# Altium footprint library Mypcb.PcbLib: 144 footprints (part 4 of 9)
Each footprint in its own frame and in the unit in brackets; x right, y up, seen from the top. Pads: shape width x height; smd on the part's side, far side on the other; paste and mask are expansions set on the pad; w line width, h text height; cw(c..) or ccw(c..) is an arc to the next point about the centre after c.
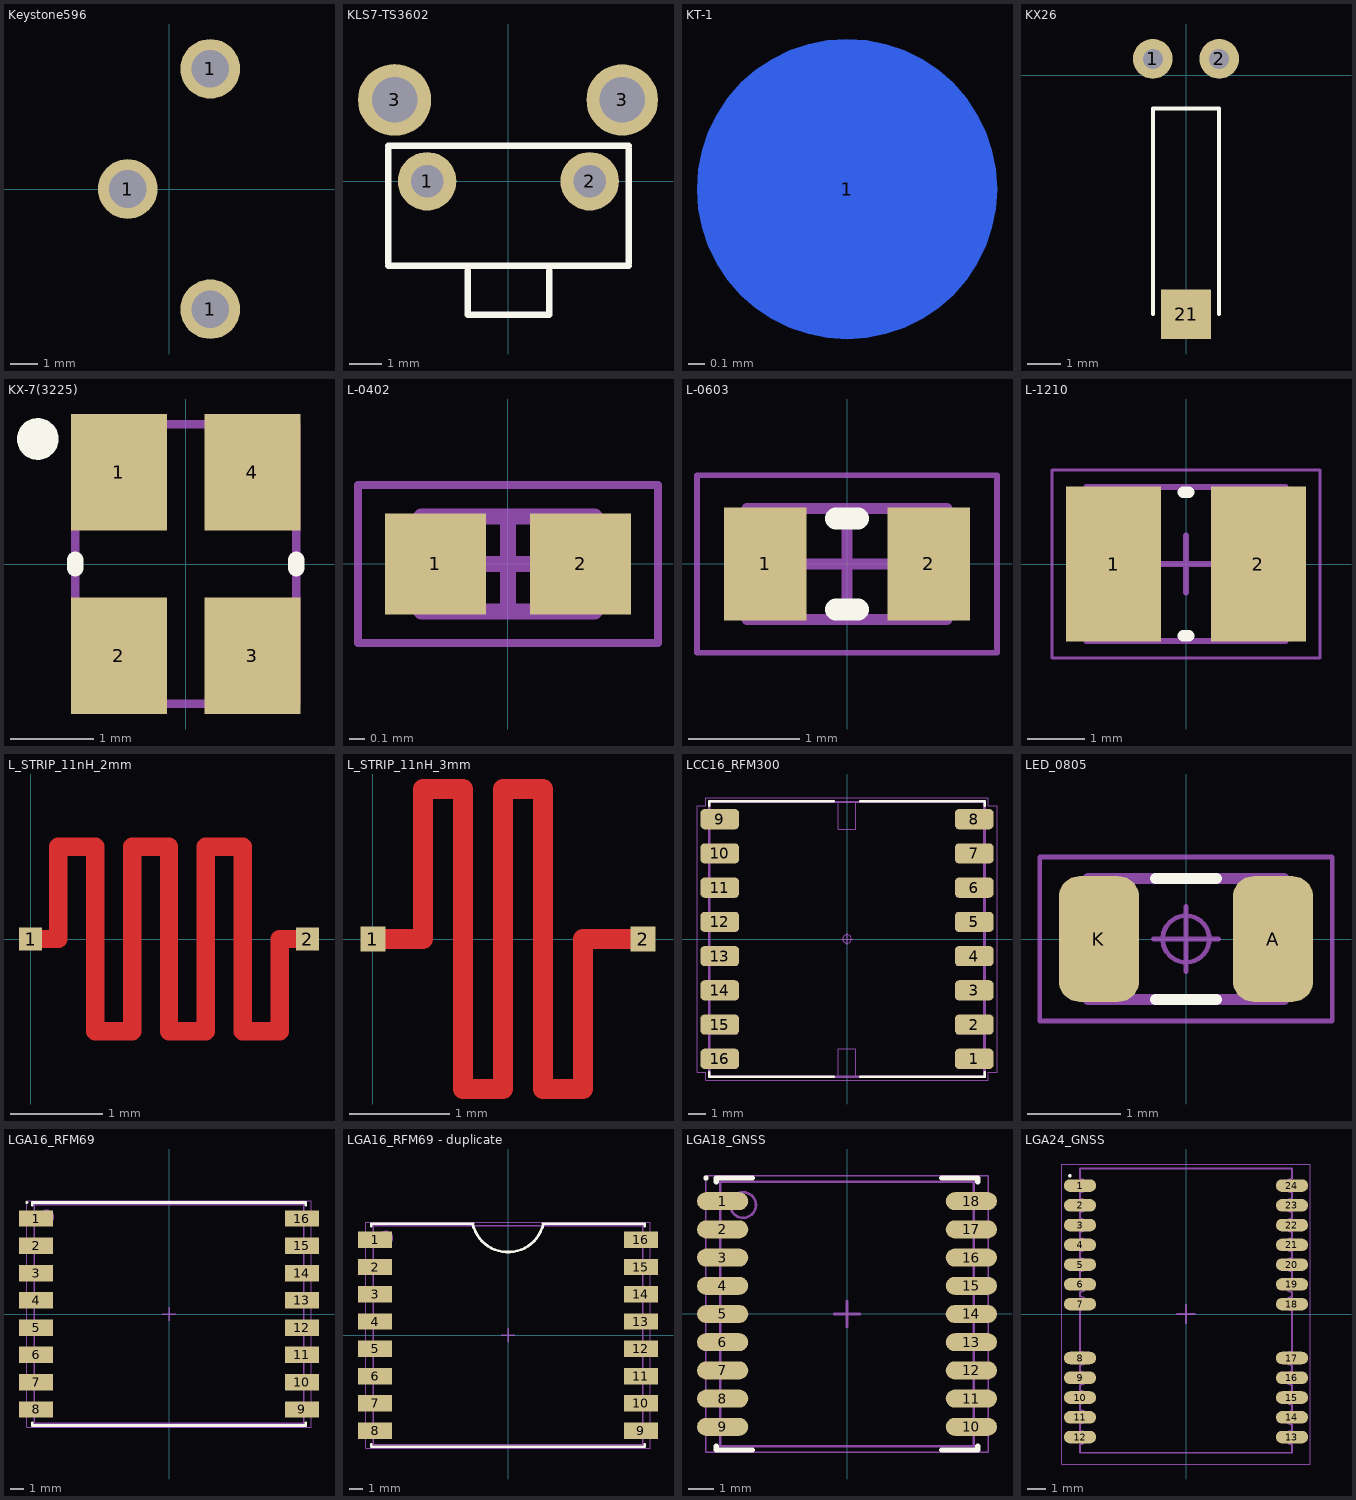
[diagram p3: the footprints below, top view; thin cyan lines are the x and y axes]

## Keystone596 [mm]
pads (3):
  round 2.2 hole 1.4 mask+0.1: 1(-1.525,0) 1(1.525,-4.445) 1(1.525,4.445)
3D body "keystone-PN596.STEP": height 11.43, standoff -3.88, extent -2.026,-5.369 4.705,5.248

## KLS7-TS3602 [mm] "miniature switch"
pads (4):
  round 1.8 hole 1: 1(-2.5,0) 2(2.5,0)
  oval 2.25x2.2 hole 1.4: 3(-3.5,2.5)
  round 2.2 hole 1.4: 3(3.5,2.5)
Top Overlay:
  lines w0.2: -3.7,-2.6 3.7,-2.6 ; -3.7,-2.5 -3.7,1 ; -3.7,1.1 3.7,1.1 ; -1.25,-2.75 -1.25,-4.1 1.25,-4.1 1.25,-2.75 ; 3.7,-2.5 3.7,1
3D body "KLS7-TS3602.STEP": height 4.4, standoff -1.4, extent -3.7,-3.975 3.6,3.75

## KT-1 [mm]
pads (1):
  round 1.8 smd far side: 1(3,7)

## KX26 [mm] "clock crystal, 2*6 mm"
pads (3):
  round 1.2 hole 0.6: 1(-1,0.5) 2(1,0.5)
  rect 1.5x1.5 smd: 21(0,-7.2)
Top Overlay:
  lines w0.12: -1,-7.2 -1,-1 1,-1 1,-7.2
3D body: height 0.99, standoff -1, extent -1,-7.2 0.996,-1

## KX-7(3225) [mm] "SMD, 4-Leads, Body 2.65x3.35mm, Height 0.6mm"
height 0.6
pads (4):
  rect 1.15x1.4 smd: 1(-0.8,1.1) 2(-0.8,-1.1) 3(0.8,-1.1) 4(0.8,1.1)
Top Overlay:
  circle w0.25: c-1.775,1.5 r0.125
  lines w0.2: -1.325,-0.05 -1.325,0.05 ; 1.325,-0.05 1.325,0.05
Mechanical 5:
  circle w0.1: c-0.7,1 r0.2
  lines w0.1: -1.325,-1.675 -1.325,1.675 1.325,1.675 1.325,-1.675 -1.325,-1.675
3D body: height 0.4, standoff 0.2, extent -1.301,-1.65 1.3,1.65
3D body: height 0.6, standoff 0.4, extent -1.099,-1.449 1.099,1.449
3D body: height 0.2, standoff 0, extent -1.325,-1.675 1.325,1.675
3D body: height 0.61, standoff 0.3, extent -0.899,0.801 -0.501,1.199

## L-0402 [mm]
pads (2):
  rect 0.64x0.64 smd: 1(-0.46,0) 2(0.46,0)
Mechanical 13:
  lines w0.1: -0.55,-0.3 -0.55,0.3 0.55,0.3 0.55,-0.3 -0.55,-0.3
Mechanical 15:
  lines w0.05: -0.95,-0.5 -0.95,0.5 0.95,0.5 0.95,-0.5 -0.95,-0.5
  lines w0.1: -0.3,0 0.3,0 ; 0,-0.3 0,0.3
3D body: height 0.6, standoff 0, extent -0.35,-0.3 0.35,0.3
3D body: height 0.6, standoff 0, extent 0.35,-0.3 0.55,0.3
3D body: height 0.6, standoff 0, extent -0.55,-0.3 -0.35,0.3

## L-0603 [mm] "Chip Inductor, 2-Leads, Body 1,60x0,80mm, IPC Medium Density"
height 1
pads (2):
  rect 0.74x1.02 smd: 1(-0.735,0) 2(0.735,0)
Top Overlay:
  lines w0.2: -0.1,-0.41 0.1,-0.41 ; -0.1,0.41 0.1,0.41
Mechanical 13:
  lines w0.1: -0.9,-0.5 0.9,-0.5 0.9,0.5 -0.9,0.5 -0.9,-0.5
Mechanical 15:
  lines w0.05: -1.35,-0.8 1.35,-0.8 1.35,0.8 -1.35,0.8 -1.35,-0.8
  lines w0.1: -0.5,0 0.5,0 ; 0,-0.5 0,0.5
3D body "INDC1608X10N.step": height 1, standoff 0, extent -0.9,-0.5 0.9,0.5

## L-1210 [mm] "Chip Inductor, 2-Leads, Body 3,20x2,50mm, IPC Medium Density"
height 2.2
pads (2):
  rect 1.67x2.72 smd: 1(-1.27,0) 2(1.27,0)
Top Overlay:
  lines w0.2: -0.05,-1.26 0.05,-1.26 ; -0.05,1.26 0.05,1.26
Mechanical 13:
  lines w0.1: -1.75,-1.35 1.75,-1.35 1.75,1.35 -1.75,1.35 -1.75,-1.35
Mechanical 15:
  lines w0.05: -2.35,-1.65 2.35,-1.65 2.35,1.65 -2.35,1.65 -2.35,-1.65
  lines w0.1: -0.5,0 0.5,0 ; 0,-0.5 0,0.5
3D body: height 2.2, standoff 0, extent 0.85,-1.35 1.75,1.35
3D body: height 2.2, standoff 0, extent -1.75,-1.35 -0.85,1.35
3D body: height 2.2, standoff 0, extent -0.85,-1.35 0.85,1.35

## L_STRIP_11nH_2mm [mm]
pads (2):
  rect 0.25x0.25 smd: 1(0,0) 2(3,0)
Top Layer:
  lines w0.2: 0,0 0.3,0 0.3,1 0.7,1 0.7,-1 1.1,-1 1.1,1 1.5,1 1.5,-1 1.9,-1 1.9,1 2.3,1 2.3,-1 2.7,-1 2.7,0 3,0

## L_STRIP_11nH_3mm [mm]
pads (2):
  rect 0.25x0.25 smd: 1(0,0) 2(2.7,0)
Top Layer:
  lines w0.2: 0,0 0.5,0 0.5,1.5 0.9,1.5 0.9,-1.5 1.3,-1.5 1.3,1.5 1.7,1.5 1.7,-1.5 2.1,-1.5 2.1,0 2.7,0

## LCC16_RFM300 [mm] "Leadless Chip Carrier (LCC), 2.00 mm pitch; square, 1 pin X 8 pin, 16.00 mm L X 16.00 mm W X 1.90 mm H body"
height 1.9
pads (16):
  rrect42% 2.26x1.18 smd: 1(7.435,-7) 2(7.435,-5) 3(7.435,-3) 4(7.435,-1) 5(7.435,1) 6(7.435,3) 7(7.435,5) 8(7.435,7) 9(-7.435,7) 10(-7.435,5) 11(-7.435,3) 12(-7.435,1) 13(-7.435,-1) 14(-7.435,-3) 15(-7.435,-5) 16(-7.435,-7)
Top Overlay:
  lines w0.12: -8.05,-7.77 -8.05,-8.05 -0.77,-8.05 ; -8.05,7.77 -8.05,8.05 -0.77,8.05 ; 0.77,-8.05 8.05,-8.05 8.05,-7.77 ; 0.77,8.05 8.05,8.05 8.05,7.77
Mechanical 11:
  lines w0.12: -8.05,-8.05 8.05,-8.05 8.05,8 -8.05,8 -8.05,-8.05
Mechanical 12:
  lines w0.025: -8,-8 8,-8 8,8 -8,8 -8,-8 ; -8,-7.525 -8,-6.475 -6.4,-6.475 -6.4,-7.525 -8,-7.525 ; -8,-5.525 -8,-4.475 -6.4,-4.475 -6.4,-5.525 -8,-5.525 ; -8,-3.525 -8,-2.475 -6.4,-2.475 -6.4,-3.525 -8,-3.525 ; -8,-1.525 -8,-0.475 -6.4,-0.475 -6.4,-1.525 -8,-1.525 ; -8,0.475 -8,1.525 -6.4,1.525 -6.4,0.475 -8,0.475 ; -8,2.475 -8,3.525 -6.4,3.525 -6.4,2.475 -8,2.475 ; -8,4.475 -8,5.525 -6.4,5.525 -6.4,4.475 -8,4.475 ; -8,6.475 -8,7.525 -6.4,7.525 -6.4,6.475 -8,6.475 ; -0.525,-8 -0.525,-6.4 0.525,-6.4 0.525,-8 -0.525,-8 ; -0.525,6.4 -0.525,8 0.525,8 0.525,6.4 -0.525,6.4 ; 6.4,-7.525 8,-7.525 8,-6.475 6.4,-6.475 6.4,-7.525 ; 6.4,-5.525 8,-5.525 8,-4.475 6.4,-4.475 6.4,-5.525 ; 6.4,-3.525 8,-3.525 8,-2.475 6.4,-2.475 6.4,-3.525 ; 6.4,-1.525 8,-1.525 8,-0.475 6.4,-0.475 6.4,-1.525 ; 6.4,0.475 8,0.475 8,1.525 6.4,1.525 6.4,0.475 ; 6.4,2.475 8,2.475 8,3.525 6.4,3.525 6.4,2.475 ; 6.4,4.475 8,4.475 8,5.525 6.4,5.525 6.4,4.475 ; 6.4,6.475 8,6.475 8,7.525 6.4,7.525 6.4,6.475
Mechanical 15:
  circle w0.05: c0,0 r0.25
  lines w0.05: -0.35,0 0.35,0 ; 0,-0.35 0,0.35 ; -8.765,-7.79 -8.25,-7.79 -8.25,-8.25 -0.79,-8.25 0.79,-8.25 8.25,-8.25 8.25,-7.79 8.765,-7.79 8.765,7.79 8.25,7.79 8.25,8.25 0.79,8.25 -0.79,8.25 -8.25,8.25 -8.25,7.79 -8.765,7.79 -8.765,-7.79
Mechanical 16:
  text ".Designator" at 0,0 h1.2
3D body "LCC16_RFM300.STEP": height 1.9, standoff 0, extent -8.05,-8.05 8.05,8.05

## LED_0805 [mm] "LED, Chip; 2.00 mm L X 1.25 mm W X 0.80 mm H body"
height 0.8
pads (2):
  rrect51% 0.86x1.35 smd: A(0.935,0) K(-0.935,0)
Top Overlay:
  lines w0.12: -0.325,-0.65 0.325,-0.65 ; -0.325,0.65 0.325,0.65
Mechanical 11:
  lines w0.12: -1.05,-0.65 1.05,-0.65 1.05,0.65 -1.05,0.65 -1.05,-0.65
Mechanical 12:
  lines w0.025: -1,-0.625 1,-0.625 ; -1,-0.625 -1,0.625 ; -1,-0.625 -1,0.625 ; -1,-0.625 -0.6,-0.625 -0.6,0.625 -1,0.625 ; -1,0.625 1,0.625 ; 1,-0.625 1,0.625 ; 1,-0.625 0.6,-0.625 0.6,0.625 1,0.625 ; 1,-0.625 1,0.625
Mechanical 15:
  circle w0.05: c0,0 r0.25
  lines w0.05: -0.35,0 0.35,0 ; 0,-0.35 0,0.35 ; -1.57,-0.88 1.57,-0.88 1.57,0.88 -1.57,0.88 -1.57,-0.88
3D body: height 0.25, standoff 0, extent -1,-0.625 1,0.625

## LGA16_RFM69 [mm] "LGA, 16-Leads, RFM69HW"
height 2
pads (16):
  rect 2.5x1.2 smd: 1(-9.75,7) 2(-9.75,5) 3(-9.75,3) 4(-9.75,1) 5(-9.75,-1) 6(-9.75,-3) 7(-9.75,-5) 8(-9.75,-7) 9(9.75,-7) 10(9.75,-5) 11(9.75,-3) 12(9.75,-1) 13(9.75,1) 14(9.75,3) 15(9.75,5) 16(9.75,7)
Top Overlay:
  circle w0.1: c-10.425,8.175 r0.05
  lines w0.2: -10.025,-8 -10.025,-8.175 10.025,-8.175 10.025,-8 ; -10.025,8 -10.025,8.175 10.025,8.175 10.025,8
Mechanical 13:
  circle w0.1: c-8.975,7.125 r0.5
  lines w0.1: -9.875,-8.025 -9.875,8.025 9.875,8.025 9.875,-8.025 -9.875,-8.025
Mechanical 15:
  lines w0.05: -10.435,-8.3 -10.435,8.3 10.435,8.3 10.435,-8.3 -10.435,-8.3
  lines w0.1: -0.5,0 0.5,0 ; 0,-0.5 0,0.5
3D body "RFM69W.stp": height 2.1, standoff 0, extent -9.85,-8 9.85,8

## LGA16_RFM69 - duplicate [mm] "LGA, 16-Leads, RFM69HW"
height 2
pads (16):
  rect 2.5x1.2 smd: 1(-9.75,7) 2(-9.75,5) 3(-9.75,3) 4(-9.75,1) 5(-9.75,-1) 6(-9.75,-3) 7(-9.75,-5) 8(-9.75,-7) 9(9.75,-7) 10(9.75,-5) 11(9.75,-3) 12(9.75,-1) 13(9.75,1) 14(9.75,3) 15(9.75,5) 16(9.75,7)
Top Overlay:
  lines w0.2: -10.025,-8 -10.025,-8.175 10.025,-8.175 10.025,-8 ; -10.025,8 -10.025,8.175 -2.575,8.175 ; -2.575,8.095 ccw(c0,8.75) 2.575,8.095 ; 2.575,8.175 10.025,8.175 10.025,8
Mechanical 13:
  circle w0.1: c-8.975,7.125 r0.5
  lines w0.1: -9.875,-8.025 9.875,-8.025 9.875,8.025 -9.875,8.025 -9.875,-8.025
Mechanical 15:
  lines w0.05: -10.435,-8.3 10.435,-8.3 10.435,8.3 -10.435,8.3 -10.435,-8.3
  lines w0.1: -0.5,0 0.5,0 ; 0,-0.5 0,0.5
3D body "RFM69W.STEP": height 1.9, standoff 0, extent -9.85,-8 9.85,8

## LGA18_GNSS [mm] "8-Leads, Body 10,10x9,70mm, Pitch 1,10mm"
height 2.6
pads (18):
  oval 2x0.7 smd mask+0.1: 1(-4.85,4.4) 2(-4.85,3.3) 3(-4.85,2.2) 4(-4.85,1.1) 5(-4.85,0) 6(-4.85,-1.1) 7(-4.85,-2.2) 8(-4.85,-3.3) 9(-4.85,-4.4) 10(4.85,-4.4) 11(4.85,-3.3) 12(4.85,-2.2) 13(4.85,-1.1) 14(4.85,0) 15(4.85,1.1) 16(4.85,2.2) 17(4.85,3.3) 18(4.85,4.4)
Top Overlay:
  circle w0.1: c-5.5,5.3 r0.05
  lines w0.2: -5.1,-5.15 -5.1,-5.3 -3.695,-5.3 ; -5.1,5.15 -5.1,5.3 -3.695,5.3 ; 3.695,-5.3 5.1,-5.3 5.1,-5.15 ; 3.695,5.3 5.1,5.3 5.1,5.15
Mechanical 13:
  circle w0.1: c-4.05,4.25 r0.5
  lines w0.1: -4.95,-5.15 4.95,-5.15 4.95,5.15 -4.95,5.15 -4.95,-5.15
Mechanical 15:
  lines w0.05: -5.505,-5.4 5.505,-5.4 5.505,5.4 -5.505,5.4 -5.505,-5.4
  lines w0.1: -0.5,0 0.5,0 ; 0,-0.5 0,0.5
3D body: height 2.6, standoff 0, extent -4.95,-5.15 4.95,5.15

## LGA24_GNSS [mm]
height 3.4
pads (24):
  oval 1.8x0.7 smd: 1(-5.9,7.15) 2(-5.9,6.05) 3(-5.9,4.95) 4(-5.9,3.85) 5(-5.9,2.75) 6(-5.9,1.65) 7(-5.9,0.55) 8(-5.9,-2.45) 9(-5.9,-3.55) 10(-5.9,-4.65) 11(-5.9,-5.75) 12(-5.9,-6.85) 13(5.9,-6.85) 14(5.9,-5.75) 15(5.9,-4.65) 16(5.9,-3.55) 17(5.9,-2.45) 18(5.9,0.55) 19(5.9,1.65) 20(5.9,2.75) 21(5.9,3.85) 22(5.9,4.95) 23(5.9,6.05) 24(5.9,7.15)
Top Overlay:
  circle w0.1: c-6.462,7.688 r0.05
Mechanical 13:
  lines w0.1: -5.9,1.973 cw(c-5.9,1.6) -5.9,1.227 -5.9,0.975 cw(c-5.9,0.6) -5.9,0.225 -5.9,-1.75 -5.9,-2.1 cw(c-5.9,-2.475) -5.9,-2.85 -5.9,-3.2 cw(c-5.9,-3.575) -5.9,-3.95 -5.9,-4.25 cw(c-5.9,-4.625) -5.9,-5 -5.9,-5.35 cw(c-5.9,-5.725) -5.9,-6.1 -5.9,-6.5 cw(c-5.9,-6.875) -5.9,-7.25 -5.9,-7.725 5.9,-7.725 5.9,-7.25 cw(c5.9,-6.875) 5.9,-6.5 5.9,-6.15 cw(c5.9,-5.775) 5.9,-5.4 5.9,-5.05 cw(c5.9,-4.675) 5.9,-4.3 5.9,-3.95 cw(c5.9,-3.575) 5.9,-3.2 5.9,-2.85 cw(c5.9,-2.475) 5.9,-2.1 5.9,-1.75 5.9,0.2 cw(c5.9,0.575) 5.9,0.95 5.9,1.225 cw(c5.9,1.6) 5.9,1.975 ; -5.9,2.025 -5.9,2.375 ccw(c-5.9,2.75) -5.9,3.125 -5.9,3.475 ccw(c-5.9,3.85) -5.9,4.225 -5.9,4.575 ccw(c-5.9,4.95) -5.9,5.325 -5.9,5.675 ccw(c-5.9,6.05) -5.9,6.425 -5.9,6.775 ccw(c-5.9,7.15) -5.9,7.525 -5.9,8.1 5.9,8.1 5.9,7.525 ccw(c5.9,7.15) 5.9,6.775 5.9,6.425 ccw(c5.9,6.05) 5.9,5.675 5.9,5.325 ccw(c5.9,4.95) 5.9,4.575 5.9,4.225 ccw(c5.9,3.85) 5.9,3.475 5.9,3.125 ccw(c5.9,2.75) 5.9,2.375 5.9,2.025
Mechanical 15:
  lines w0.05: -6.91,-8.35 -6.91,8.35 6.91,8.35 6.91,-8.35 -6.91,-8.35
  lines w0.1: -0.5,0 0.5,0 ; 0,-0.5 0,0.5
3D body: height 3.4, standoff 0, extent -6.2,-7.7 6.2,8.1